# Altium integrated library XILINX ARTIX-7 FPGA A704 Motherboard_CON.IntLib: 3 symbols
Pins are listed as number, name and electrical type; pins without a type are passive.

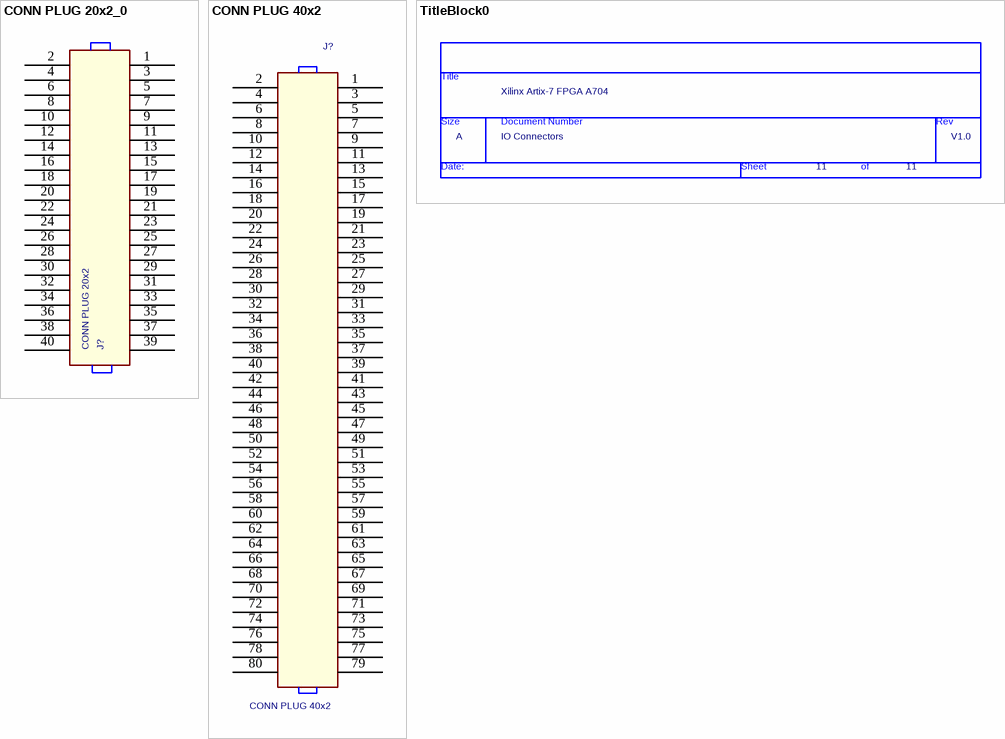
[diagram p0: symbols CONN PLUG 20x2_0 to TitleBlock0]

## CONN PLUG 20x2_0
designator J?, comment CONN PLUG 20x2
footprint HDR2X20_2P0
pins: 1, 2, 3, 4, 5, 6, 7, 8, 9, 10, 11, 12, 13, 14, 15, 16, 17, 18, 19, 20, 21, 22, 23, 24, 25, 26, 27, 28, 29, 30, 31, 32, 33, 34, 35, 36, 37, 38, 39, 40

## CONN PLUG 40x2
designator J?
footprint HDR2X40_2P0
pins: 1, 2, 3, 4, 5, 6, 7, 8, 9, 10, 11, 12, 13, 14, 15, 16, 17, 18, 19, 20, 21, 22, 23, 24, 25, 26, 27, 28, 29, 30, 31, 32, 33, 34, 35, 36, 37, 38, 39, 40, 41, 42, 43, 44, 45, 46, 47, 48, 49, 50, 51, 52, 53, 54, 55, 56, 57, 58, 59, 60, 61, 62, 63, 64, 65, 66, 67, 68, 69, 70, 71, 72, 73, 74, 75, 76, 77, 78, 79, 80

## TitleBlock0
designator *?  Doc: IO Connectors  RevCode: V1.0  Title: Xilinx Artix-7 FPGA A704  Page Size: A  Page Number: 11  (hidden comment: TitleBlock0)  (graphical)
Page Create Date: March  8, 1995; Page Count: 11; Schematic Page Count: 11; Schematic Page Number: 11
text: Title; Size; Document Number; Rev; Date:; Sheet; of